# Altium footprint library ftg_lib.PcbLib: 53 footprints (part 1 of 4)
Each footprint in its own frame and in the unit in brackets; x right, y up, seen from the top. Pads: shape width x height; smd on the part's side, far side on the other; paste and mask are expansions set on the pad; w line width, h text height; cw(c..) or ccw(c..) is an arc to the next point about the centre after c.
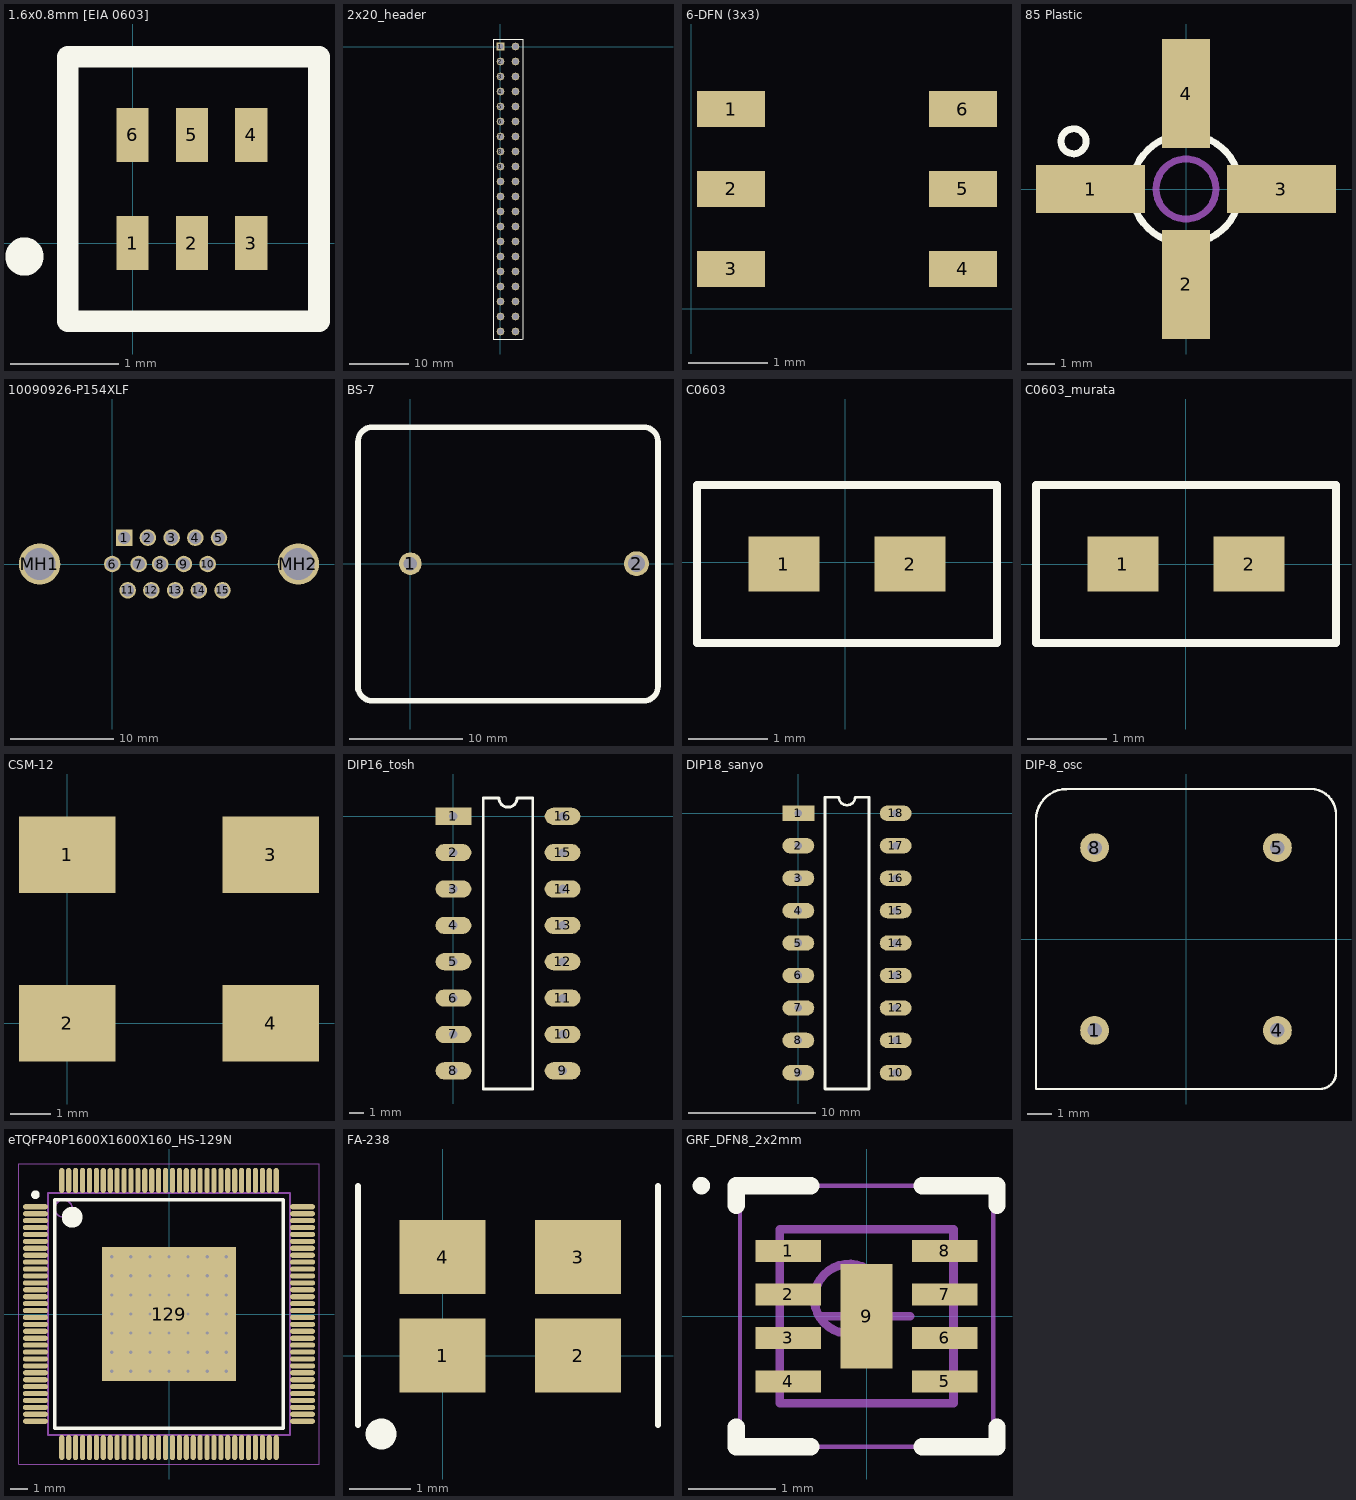
[diagram p0: the footprints below, top view; thin cyan lines are the x and y axes]

## 1.6x0.8mm [EIA 0603] [mm] "HHM22106C1 case"
height 0.6
pads (6):
  rect 0.3x0.5 smd: 1(0,0) 2(0.55,0) 3(1.1,0) 4(1.1,1) 5(0.55,1) 6(0,1)
Top Overlay:
  circle w0.254: c-1,-0.125 r0.05
  lines w0.2: -0.6,-0.725 1.725,-0.725 1.725,1.725 -0.6,1.725 -0.6,-0.725
3D body: height 0.6, standoff 0, extent -0.25,0.1 1.35,0.9

## 2x20_header [mm]
pads (40):
  rect 1.3x1.3 hole 1.02: 1(0,0)
  round 1.3 hole 1.02: 2(0,-2.54) 3(0,-5.08) 4(0,-7.62) 5(0,-10.16) 6(0,-12.7) 7(0,-15.24) 8(0,-17.78) 9(0,-20.32) 10(0,-22.86) 11(0,-25.4) 12(0,-27.94) 13(0,-30.48) 14(0,-33.02) 15(0,-35.56) 16(0,-38.1) 17(0,-40.64) 18(0,-43.18) 19(0,-45.72) 20(0,-48.26) 21(2.54,-48.26) 22(2.54,-45.72) 23(2.54,-43.18) 24(2.54,-40.64) 25(2.54,-38.1) 26(2.54,-35.56) 27(2.54,-33.02) 28(2.54,-30.48) 29(2.54,-27.94) 30(2.54,-25.4) 31(2.54,-22.86) 32(2.54,-20.32) 33(2.54,-17.78) 34(2.54,-15.24) 35(2.54,-12.7) 36(2.54,-10.16) 37(2.54,-7.62) 38(2.54,-5.08) 39(2.54,-2.54) 40(2.54,0)
Top Overlay:
  lines w0.2: -1.24,-49.53 -1.24,1.27 ; -1.2,-49.53 3.65,-49.53 ; -1.2,1.27 1.905,1.27 ; 0.61,1.27 3.75,1.27 ; 3.78,-49.53 3.78,1.27

## 6-DFN (3x3) [mm] "Temperature Sensor Digital, Local -40°C ~ 125°C 14b 6-DFN (3x3)"
height 0.75
pads (6):
  rect 0.85x0.45 smd: 1(0.5,2.5) 2(0.5,1.5) 3(0.5,0.5) 4(3.4,0.5) 5(3.4,1.5) 6(3.4,2.5)
3D body "dfn6_3x3_rm0_95.STEP": height 0.75, standoff -0.05, extent 0.35,0 3.45,3

## 24pin_4x4_qfn_r820t [mm] "24pin QFN for r820t"

## 85 Plastic [mm] "85 Plastic / VV105 MMIC case (MAR-6)"
height 1.55
pads (4):
  rect 4x1.75 smd: 1(-3.5,0) 3(3.5,0)
  rect 1.75x4 smd: 2(0,-3.5) 4(0,3.5)
Top Overlay:
  circle w0.254: c-4.125,1.75 r0.46
  circle w0.254: c0,0 r2
Mechanical 15:
  circle w0.254: c0,0 r1.1

## 10090926-P154XLF [mm]
pads (17):
  rect 1.6x1.6 hole 1.2: 1(1.145,2.54)
  round 1.6 hole 1.2: 2(3.435,2.54) 3(5.725,2.54) 4(8.015,2.54) 5(10.305,2.54) 6(0,0) 7(2.54,0) 8(4.625,0) 9(6.915,0) 10(9.205,0) 11(1.485,-2.54) 12(3.775,-2.54) 13(6.065,-2.54) 14(8.355,-2.54) 15(10.645,-2.54)
  round 4 hole 3.1: MH1(-7.02,0) MH2(17.97,0)

## BS-7 [mm] "CR2032 battery holder, THT PCB mount"
height 9
pads (2):
  round 2 hole 1.17: 1(0,0)
  round 2.2 hole 1.5: 2(20,0)
Top Overlay:
  lines w0.5: -4.625,-11.125 -4.625,10.6 -4.625,10.805 cw(c-3.355,10.805) -3.355,12.075 20.725,12.075 ; -4.625,-10.855 ccw(c-3.355,-10.855) -3.355,-12.125 20.63,-12.125 ccw(c20.63,-10.855) 21.9,-10.855 21.9,10.805 ccw(c20.63,10.805) 20.63,12.075
3D body "BS-7.STEP": height 8.76, standoff -3.61, extent -3.701,-11.174 20.683,11.174

## C0603 [mm] "C0603"
pads (2):
  rect 0.9x0.7 smd: 1(-0.775,-0.025) 2(0.825,-0.025)
Top Overlay:
  lines w0.1: -1.875,-1.025 1.925,-1.025 1.925,0.975 -1.875,0.975 -1.875,-0.025 -1.875,-1.025

## C0603_murata [mm]
pads (2):
  rect 0.9x0.7 smd: 1(-0.8,0) 2(0.8,0)
Top Overlay:
  lines w0.1: -1.9,-1 -1.9,0 -1.9,1 1.9,1 1.9,-1 -1.9,-1

## CSM-12 [mm] "ECS case CSM-12 11-8 x 5.5 crystal"
height 2.5
pads (4):
  rect 2.4x1.9 all layers, no hole: 1(0,4.2) 2(0,0) 3(5.08,4.2) 4(5.08,0)

## DIP16_tosh [mm]
pads (16):
  rect 2.5x1.2 hole 0.6: 1(0,0)
  oval 2.5x1.2 hole 0.6: 2(0,-2.54) 3(0,-5.08) 4(0,-7.62) 5(0,-10.16) 6(0,-12.7) 7(0,-15.24) 8(0,-17.78) 9(7.62,-17.78) 10(7.62,-15.24) 11(7.62,-12.7) 12(7.62,-10.16) 13(7.62,-7.62) 14(7.62,-5.08) 15(7.62,-2.54) 16(7.62,0)
Top Overlay:
  lines w0.2: 2.085,-19.05 2.085,1.27 3.175,1.27 ccw(c3.81,1.27) 4.445,1.27 5.535,1.27 5.535,-19.05 2.085,-19.05

## DIP18_sanyo [mm]
pads (18):
  rect 2.5x1.2 hole 0.6: 1(0,0)
  oval 2.5x1.2 hole 0.6: 2(0,-2.54) 3(0,-5.08) 4(0,-7.62) 5(0,-10.16) 6(0,-12.7) 7(0,-15.24) 8(0,-17.78) 9(0,-20.32) 10(7.62,-20.32) 11(7.62,-17.78) 12(7.62,-15.24) 13(7.62,-12.7) 14(7.62,-10.16) 15(7.62,-7.62) 16(7.62,-5.08) 17(7.62,-2.54) 18(7.62,0)
Top Overlay:
  lines w0.2: 2.085,-21.59 5.535,-21.59 5.535,1.27 4.445,1.27 cw(c3.81,1.27) 3.175,1.27 2.085,1.27 2.085,-21.59

## DIP-8_osc [mm] "DIP-8 crystal oscillator"
height 5.1
pads (4):
  round 1.2 hole 0.6: 1(-3.81,-3.81) 4(3.81,-3.81) 5(3.81,3.81) 8(-3.81,3.81)
Top Overlay:
  lines w0.1: -4.98,6.245 ccw(c-4.98,4.975) -6.25,4.975 -6.25,-6.25 5.575,-6.25 ccw(c5.575,-5.575) 6.25,-5.575 6.25,5.2 ccw(c5.2,5.2) 5.2,6.25 -4.98,6.25
3D body "OSC_DIP-8.step": height 4.6, standoff -2, extent -6.35,-6.35 6.35,6.35

## eTQFP40P1600X1600X160_HS-129N [mm] "eTQFP, 128-Leads, Body 14,00x14,00mm, Pitch 0,40mm, Thermal Pad 7,75x7,75mm, IPC Medium Density Allwinner"
height 1.6
pads (129):
  oval 1.45x0.3 smd: 1(-7.725,6.2) 2(-7.725,5.8) 3(-7.725,5.4) 4(-7.725,5) 5(-7.725,4.6) 6(-7.725,4.2) 7(-7.725,3.8) 8(-7.725,3.4) 9(-7.725,3) 10(-7.725,2.6) 11(-7.725,2.2) 12(-7.725,1.8) 13(-7.725,1.4) 14(-7.725,1) 15(-7.725,0.6) 16(-7.725,0.2) 17(-7.725,-0.2) 18(-7.725,-0.6) 19(-7.725,-1) 20(-7.725,-1.4) 21(-7.725,-1.8) 22(-7.725,-2.2) 23(-7.725,-2.6) 24(-7.725,-3) 25(-7.725,-3.4) 26(-7.725,-3.8) 27(-7.725,-4.2) 28(-7.725,-4.6) 29(-7.725,-5) 30(-7.725,-5.4) 31(-7.725,-5.8) 32(-7.725,-6.2) 65(7.725,-6.2) 66(7.725,-5.8) 67(7.725,-5.4) 68(7.725,-5) 69(7.725,-4.6) 70(7.725,-4.2) 71(7.725,-3.8) 72(7.725,-3.4) 73(7.725,-3) 74(7.725,-2.6) 75(7.725,-2.2) 76(7.725,-1.8) 77(7.725,-1.4) 78(7.725,-1) 79(7.725,-0.6) 80(7.725,-0.2) 81(7.725,0.2) 82(7.725,0.6) 83(7.725,1) 84(7.725,1.4) 85(7.725,1.8) 86(7.725,2.2) 87(7.725,2.6) 88(7.725,3) 89(7.725,3.4) 90(7.725,3.8) 91(7.725,4.2) 92(7.725,4.6) 93(7.725,5) 94(7.725,5.4) 95(7.725,5.8) 96(7.725,6.2)
  oval 0.3x1.45 smd: 33(-6.2,-7.725) 34(-5.8,-7.725) 35(-5.4,-7.725) 36(-5,-7.725) 37(-4.6,-7.725) 38(-4.2,-7.725) 39(-3.8,-7.725) 40(-3.4,-7.725) 41(-3,-7.725) 42(-2.6,-7.725) 43(-2.2,-7.725) 44(-1.8,-7.725) 45(-1.4,-7.725) 46(-1,-7.725) 47(-0.6,-7.725) 48(-0.2,-7.725) 49(0.2,-7.725) 50(0.6,-7.725) 51(1,-7.725) 52(1.4,-7.725) 53(1.8,-7.725) 54(2.2,-7.725) 55(2.6,-7.725) 56(3,-7.725) 57(3.4,-7.725) 58(3.8,-7.725) 59(4.2,-7.725) 60(4.6,-7.725) 61(5,-7.725) 62(5.4,-7.725) 63(5.8,-7.725) 64(6.2,-7.725) 97(6.2,7.725) 98(5.8,7.725) 99(5.4,7.725) 100(5,7.725) 101(4.6,7.725) 102(4.2,7.725) 103(3.8,7.725) 104(3.4,7.725) 105(3,7.725) 106(2.6,7.725) 107(2.2,7.725) 108(1.8,7.725) 109(1.4,7.725) 110(1,7.725) 111(0.6,7.725) 112(0.2,7.725) 113(-0.2,7.725) 114(-0.6,7.725) 115(-1,7.725) 116(-1.4,7.725) 117(-1.8,7.725) 118(-2.2,7.725) 119(-2.6,7.725) 120(-3,7.725) 121(-3.4,7.725) 122(-3.8,7.725) 123(-4.2,7.725) 124(-4.6,7.725) 125(-5,7.725) 126(-5.4,7.725) 127(-5.8,7.725) 128(-6.2,7.725)
  rect 7.75x7.75 smd: 129(0,0)
via -3.3,3.3 diameter 0.5 hole 0.2
via -2.2,3.3 diameter 0.5 hole 0.2
via -1.1,3.3 diameter 0.5 hole 0.2
via 0,3.3 diameter 0.5 hole 0.2
via 1.1,3.3 diameter 0.5 hole 0.2
via 2.2,3.3 diameter 0.5 hole 0.2
via 3.3,3.3 diameter 0.5 hole 0.2
via -3.3,2.2 diameter 0.5 hole 0.2
via -2.2,2.2 diameter 0.5 hole 0.2
via -1.1,2.2 diameter 0.5 hole 0.2
via 0,2.2 diameter 0.5 hole 0.2
via 1.1,2.2 diameter 0.5 hole 0.2
via 2.2,2.2 diameter 0.5 hole 0.2
via 3.3,2.2 diameter 0.5 hole 0.2
via -3.3,1.1 diameter 0.5 hole 0.2
via -2.2,1.1 diameter 0.5 hole 0.2
via -1.1,1.1 diameter 0.5 hole 0.2
via 0,1.1 diameter 0.5 hole 0.2
via 1.1,1.1 diameter 0.5 hole 0.2
via 2.2,1.1 diameter 0.5 hole 0.2
via 3.3,1.1 diameter 0.5 hole 0.2
via -3.3,0 diameter 0.5 hole 0.2
via -2.2,0 diameter 0.5 hole 0.2
via -1.1,0 diameter 0.5 hole 0.2
via 0,0 diameter 0.5 hole 0.2
via 1.1,0 diameter 0.5 hole 0.2
via 2.2,0 diameter 0.5 hole 0.2
via 3.3,0 diameter 0.5 hole 0.2
via -3.3,-1.1 diameter 0.5 hole 0.2
via -2.2,-1.1 diameter 0.5 hole 0.2
via -1.1,-1.1 diameter 0.5 hole 0.2
via 0,-1.1 diameter 0.5 hole 0.2
via 1.1,-1.1 diameter 0.5 hole 0.2
via 2.2,-1.1 diameter 0.5 hole 0.2
via 3.3,-1.1 diameter 0.5 hole 0.2
via -3.3,-2.2 diameter 0.5 hole 0.2
via -2.2,-2.2 diameter 0.5 hole 0.2
via -1.1,-2.2 diameter 0.5 hole 0.2
via 0,-2.2 diameter 0.5 hole 0.2
via 1.1,-2.2 diameter 0.5 hole 0.2
via 2.2,-2.2 diameter 0.5 hole 0.2
via 3.3,-2.2 diameter 0.5 hole 0.2
via -3.3,-3.3 diameter 0.5 hole 0.2
via -2.2,-3.3 diameter 0.5 hole 0.2
via -1.1,-3.3 diameter 0.5 hole 0.2
via 0,-3.3 diameter 0.5 hole 0.2
via 1.1,-3.3 diameter 0.5 hole 0.2
via 2.2,-3.3 diameter 0.5 hole 0.2
via 3.3,-3.3 diameter 0.5 hole 0.2
Top Overlay:
  circle w0.25: c-7.725,6.9 r0.125
  circle w0.6: c-5.6,5.6 r0.3
  lines w0.2: -6.6,-6.6 -6.6,6.6 6.6,6.6 6.6,-6.6 -6.6,-6.6
Mechanical 13:
  circle w0.1: c-6.1,6.1 r0.5
  lines w0.1: -7,-7 -7,7 7,7 7,-7 -7,-7
Mechanical 15:
  lines w0.05: -8.675,-8.675 -8.675,8.675 8.675,8.675 8.675,-8.675 -8.675,-8.675
  lines w0.1: -0.5,0 0.5,0 ; 0,-0.5 0,0.5
3D body "eTQFP40P1600X1600X160_HS-129N.step": height 1.6, standoff 0, extent -8,-8 8,8

## FA-238 [mm] "EPSON 3.20 x 2.50 SMD crystal case"
height 0.7
pads (4):
  rect 1.4x1.2 smd: 1(0,0) 2(2.2,0) 3(2.2,1.6) 4(0,1.6)
Top Overlay:
  circle w0.254: c-1,-1.275 r0.125
  lines w0.1: -1.375,-1.125 -1.375,2.75 ; 3.5,-1.125 3.5,2.75

## GRF_DFN8_2x2mm [mm] "DFN8 8-Leads, Body 2,00x2,00mm, Pitch 0,50mm, Thermal Pad 1,20x0,60mm, IPC Low Density"
height 0.75
pads (9):
  rect 0.75x0.25 smd: 1(-0.9,0.75) 2(-0.9,0.25) 3(-0.9,-0.25) 4(-0.9,-0.75) 5(0.9,-0.75) 6(0.9,-0.25) 7(0.9,0.25) 8(0.9,0.75)
  rect 0.6x1.2 smd: 9(0,0)
Top Overlay:
  circle w0.1: c-1.9,1.5 r0.05
  lines w0.2: -1.5,-1.275 -1.5,-1.5 -0.64,-1.5 ; -1.5,1.275 -1.5,1.5 -0.64,1.5 ; 0.64,-1.5 1.5,-1.5 1.5,-1.275 ; 0.64,1.5 1.5,1.5 1.5,1.275
Mechanical 13:
  circle w0.1: c-0.2,0.2 r0.4
  lines w0.1: -1,-1 1,-1 1,1 -1,1 -1,-1
Mechanical 15:
  lines w0.05: -1.455,-1.5 1.455,-1.5 1.455,1.5 -1.455,1.5 -1.455,-1.5
  lines w0.1: -0.5,0 0.5,0 ; 0,-0.5 0,0.5
3D body "GRF_DFN8_2x2mm.step": height 0.75, standoff 0, extent -1.001,-1 1.001,1